# Altium footprint library SRN4018-470M.PcbLib: 1 footprints
Each footprint in its own frame and in the unit in brackets; x right, y up, seen from the top. Pads: shape width x height; smd on the part's side, far side on the other; paste and mask are expansions set on the pad; w line width, h text height; cw(c..) or ccw(c..) is an arc to the next point about the centre after c.
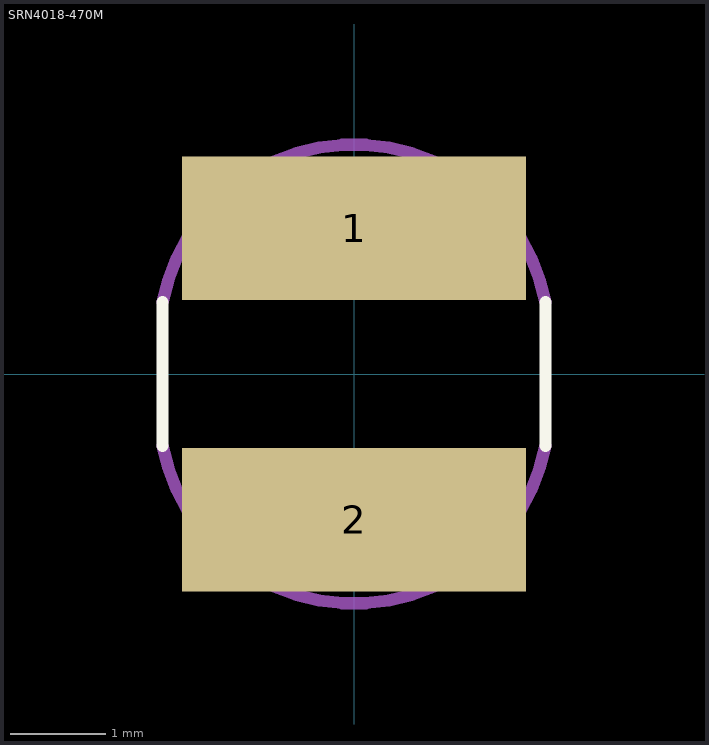
[diagram p0: the footprint, top view; thin cyan lines are the x and y axes]

## SRN4018-470M [mm]
pads (2):
  rect 3.6x1.5 smd: 1(0,1.525) 2(0,-1.525)
Top Overlay:
  lines w0.127: -2,-0.75 -2,0.75 ; 2,-0.75 2,0.75
Assembly Top:
  lines w0.127: -2,-0.75 ccw(c0,-0.361) 2,-0.75 ; -2,0.75 cw(c0,0.361) 2,0.75
3D body "SRN4018.step": height 1.82, standoff 0, extent -2,-2 2,2